# EAGLE library part SGM3204 (library SGM3204)
The DW01-P battery protection IC is designed to protect lithium-ion/polymer battery from damage or degrading the lifetime due to overcharge, overdischarge, and/or overcurrent for one-cell lithium-ion/polymer battery powered systems, such as cellular phones. Data sheet <http://goo.gl/4y108d> Dave.Calaway Eagle Library <https://goo.gl/Muy1Tr>
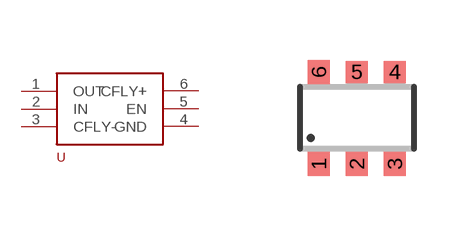
[diagram p0: symbol with the pads of SOT23-6; footprint SOT23-6]

Designator prefix -

## SGM3204  [SOT23-6]
1  OUT
2  IN
3  CFLY-
4  GND
5  EN
6  CFLY+

## Footprint SOT23-6 (pad centres in mm)
battery protection IC 6 lead, 3 on botton are smaller (type A )
smd 0.55 x 0.6: 1 -0.95,-1.15; 2 0,-1.15; 3 0.95,-1.15; 6 -0.95,1.15
smd 0.55 x 0.55: 4 0.95,1.15; 5 0,1.15